# EAGLE library part I-06237_DRV8830DGQR (library 01)
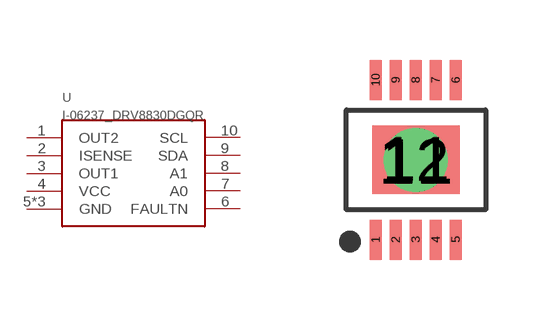
[diagram p5: symbol with the pads of DRV8830DGQR; footprint DRV8830DGQR]

Designator prefix U

## I-06237_DRV8830DGQR  [DRV8830DGQR]
1  OUT2
2  ISENSE
3  OUT1
4  VCC
5  GND
6  FAULTN
7  A0
8  A1
9  SDA
10  SCL
11  GND
12  GND

## Footprint DRV8830DGQR (pad centres in mm)
smd 0.3 x 1: 1 -1,-2; 2 -0.5,-2; 3 0,-2; 4 0.5,-2; 5 1,-2; 6 1,2; 7 0.5,2; 8 0,2; 9 -0.5,2; 10 -1,2
smd 2.18 x 1.72: 11 0,0
drill 0.8 pad 1.6: 12 0,0